# Altium schematic symbol library WiFi_Lib.SchLib: 74 symbols (part 1 of 3)
Pins are listed as number, name and electrical type; pins without a type are passive.

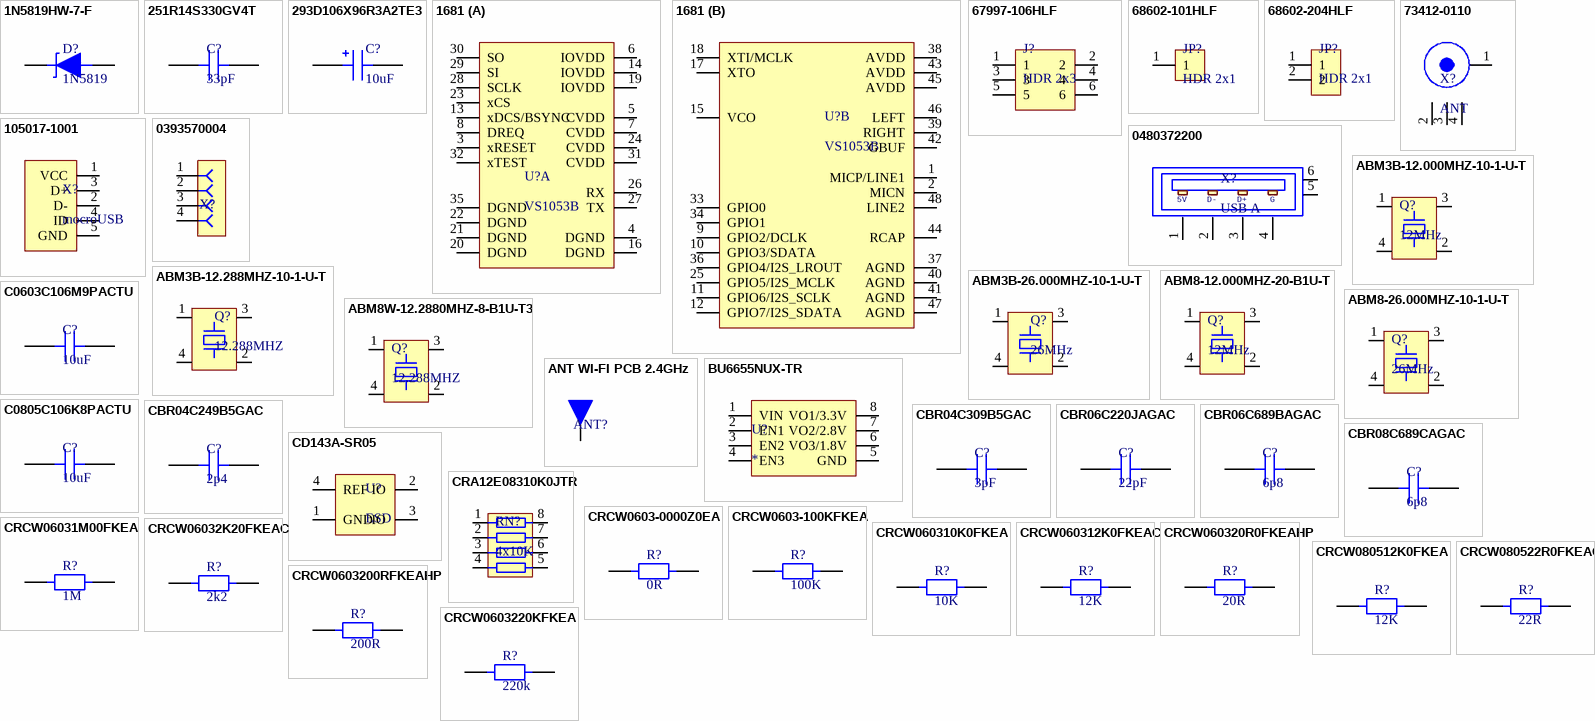
[diagram p0: symbols 1N5819HW-7-F to CRCW0603220KFKEA]

## 1N5819HW-7-F
designator D?, comment 1N5819
DIODE SCHOTTKY 40V 1A SOD123; Manufacturer: Diodes; Manufacturer Part Number: 1N5819HW-7-F; Forward Voltage: 450mV; Max Power Dissipation: 450mW; Peak Reverse Current: 50uA; Element Configuration: Single; Max Forward Surge Current (Ifsm): 25A; Polarity: Standard; Capacitance: 110pF; Supplier 1: Digi-Key; Supplier Part Number 1: 1N5819HW-FDICT-ND; Stock 1: 454743; Case/Package: SOD-123-2; Number of Pins: 2; Weight: 0.000353oz; Contact Plating: Tin,Matte; Min Operating Temperature: -65°C; Max Operating Temperature: 125°C; Package Quantity: 3000; Forward Current: 1A; Packaging: Tape and Reel; Average Rectified Current: 1A; Max Repetitive Reverse Voltage (Vrrm): 40V; Peak Non-Repetitive Surge Current: 25A; Termination: SMD/SMT; Voltage Rating (DC): 40V; Current Rating: 1A; Output Current: 1A; Max Reverse Voltage (DC): 40V; Length: 2.85mm; Height: 1.25mm; Width: 1.7mm; Radiation Hardening: No; REACH SVHC: No SVHC; Lead Free: Lead Free; ComponentLink1URL: http://www.diodes.com/datasheets/ds30217.pdf?src-supplier=Future+Electronics; ComponentLink1Description: http://www.diodes.com/datasheets/ds30217.pdf?src-supplier=Future+Electronics; ComponentLink2URL: https://www.diodes.com/assets/Datasheets/ds30217.pdf?src-supplier=Digi-Key; ComponentLink2Description: https://www.diodes.com/assets/Datasheets/ds30217.pdf?src-supplier=Digi-Key; ComponentLink3URL: http://www.farnell.com/datasheets/2238341.pdf?src-supplier=Element14; ComponentLink3Description: http://www.farnell.com/datasheets/2238341.pdf?src-supplier=Element14; ComponentLink4URL: http://www.jameco.com/Jameco/Products/ProdDS/1538419.pdf?src-supplier=Jameco; ComponentLink4Description: http://www.jameco.com/Jameco/Products/ProdDS/1538419.pdf?src-supplier=Jameco; ComponentLink5URL: http://www.farnell.com/datasheets/2238341.pdf?src-supplier=Avnet; ComponentLink5Description: http://www.farnell.com/datasheets/2238341.pdf?src-supplier=Avnet; ComponentLink6URL: http://www.farnell.com/datasheets/2238341.pdf?src-supplier=Avnet+Europe; ComponentLink6Description: http://www.farnell.com/datasheets/2238341.pdf?src-supplier=Avnet+Europe
footprint SOD123 Diode (2-Leads, Body 1.55x2.70mm, IPC Medium Density)
pins: 1, 2

## 251R14S330GV4T
designator C?, comment 33pF
CAP CER 33PF 0603 250V C0G/NP0; Manufacturer: Johanson; Manufacturer Part Number: 251R14S330GV4T; Dielectric Material: Ceramic; Tolerance: 2%; Dielectric: C0G; Temperature Coefficient: 30ppm/°C; Supplier 1: Digi-Key; Supplier Part Number 1: 712-1341-1-ND; Stock 1: 29771; Pricing 1: 1=0.56, 10=0.394, 100=0.2596, 500=0.1923, 1000=0.1634 (USD); Mount: Surface Mount; Case/Package: 0603; Number of Pins: 2; Case Code (Metric): 1608; Case Code (Imperial): 0603; Min Operating Temperature: -55°C; Max Operating Temperature: 125°C; Package Quantity: 4000; Capacitance: 33pF; Voltage Rating: 250V; Packaging: Tape and Reel; Voltage Rating (DC): 250V; Termination: SMD/SMT; Length: 0.062inch; Height: 0.89mm; Width: 0.032inch; Thickness: 0.035inch; Depth: 0.81mm; REACH SVHC: Unknown; ComponentLink1URL: http://www.farnell.com/datasheets/1731432.pdf?src-supplier=Element14; ComponentLink1Description: http://www.farnell.com/datasheets/1731432.pdf?src-supplier=Element14; ComponentLink2URL: http://www.farnell.com/datasheets/1318610.pdf?src-supplier=Element14; ComponentLink2Description: http://www.farnell.com/datasheets/1318610.pdf?src-supplier=Element14; ComponentLink3URL: http://www.farnell.com/datasheets/321205.pdf?src-supplier=Farnell; ComponentLink3Description: http://www.farnell.com/datasheets/321205.pdf?src-supplier=Farnell; ComponentLink4URL: http://www.mouser.com/ds/2/611/JTI-CAT-MLCC-HighQ-516212.pdf?src-supplier=Mouser; ComponentLink4Description: http://www.mouser.com/ds/2/611/JTI-CAT-MLCC-HighQ-516212.pdf?src-supplier=Mouser
footprint CAP 0603 (Chip Capacitor, 2-Leads, Body 1.60x0.82mm, IPC Medium Density)
pins: 1, 2

## 293D106X96R3A2TE3
designator C?, comment 10uF
CAP TANT 10UF 1206 6.3V 10%; Manufacturer: Vishay Sprague; Manufacturer Part Number: 293D106X96R3A2TE3; Dielectric Material: Tantalum; ESR (Equivalent Series Resistance): 3.4R; Ripple Current: 150mA; Leakage Current: 600nA; Polarity: Polar; Dissipation Factor: 6%; Q Factor: 6; Supplier 1: Digi-Key; Supplier Part Number 1: 718-1126-1-ND; Stock 1: 57716; Pricing 1: 1=0.3, 10=0.212, 100=0.127, 500=0.0952, 1000=0.0804 (USD); Mount: Surface Mount,PCB; Case/Package: 1206; Case Code (Metric): 3216; Case Code (Imperial): 1206; Min Operating Temperature: -55°C; Max Operating Temperature: 125°C; Capacitance: 10uF; Tolerance: 10%; Voltage Rating: 6.3V; Packaging: Tape and Reel; Voltage Rating (DC): 6.3V; Package Quantity: 1; Termination: SMD/SMT; Voltage: 6.3V; Features: General Purpose; Length: 3.2mm; Height: 1.6mm; Width: 1.6mm; Height - Seated (Max): 0.071inch; Depth: 1.6mm; Radiation Hardening: No; REACH SVHC: Unknown; Lead Free: Lead Free; ComponentLink1URL: http://www.vishay.com/docs/40002/293d.pdf?src-supplier=Avnet; ComponentLink1Description: http://www.vishay.com/docs/40002/293d.pdf?src-supplier=Avnet; ComponentLink2URL: http://www.farnell.com/datasheets/2045658.pdf?src-supplier=Element14; ComponentLink2Description: http://www.farnell.com/datasheets/2045658.pdf?src-supplier=Element14; ComponentLink3URL: http://documents.rs-components.com/techlib://itc_doclist_GB.htm?stockno=6843913&src-supplier=RSComponents; ComponentLink3Description: http://documents.rs-components.com/techlib://itc_doclist_GB.htm?stockno=6843913&src-supplier=RSComponents; ComponentLink4URL: https://www.alliedelec.com/m/d/7dc9f301682605e5c5665c787edb7bb9.pdf?src-supplier=Allied+Electronics; ComponentLink4Description: https://www.alliedelec.com/m/d/7dc9f301682605e5c5665c787edb7bb9.pdf?src-supplier=Allied+Electronics; ComponentLink5URL: http://www.vishay.com/docs/40002/293d.pdf?src-supplier=Digi-Key; ComponentLink5Description: http://www.vishay.com/docs/40002/293d.pdf?src-supplier=Digi-Key; ComponentLink6URL: http://www.mouser.com/ds/2/427/293d-239871.pdf?src-supplier=Mouser; ComponentLink6Description: http://www.mouser.com/ds/2/427/293d-239871.pdf?src-supplier=Mouser; ComponentLink7URL: http://www.vishay.com/docs/40002/293d.pdf?src-supplier=Avnet+Europe; ComponentLink7Description: http://www.vishay.com/docs/40002/293d.pdf?src-supplier=Avnet+Europe; ComponentLink8URL: http://www.farnell.com/datasheets/438417.pdf?src-supplier=Element14; ComponentLink8Description: http://www.farnell.com/datasheets/438417.pdf?src-supplier=Element14; Category: Capacitors
footprint CAP 1206 (Molded Capacitor, 2-Leads, Body 3.20x1.60mm, IPC Medium Density)
pins: 1, 2

## 1681
designator U?, comment VS1053B
IC VS1053B MP3/WAV/OGG/MIDI Player & Recorder (CODEC) Chip; Manufacturer: Adafruit Industries; Manufacturer Part Number: 1681; Supplier 1: Digi-Key; Supplier Part Number 1: 1528-2645-ND; Stock 1: 133; Pricing 1: 1=12.5 (USD)
footprint LQFP-48 (LQFP, 48-Leads, Body 7.00x7.00mm, Pitch 0.50mm, IPC Medium Density)
part A pins: 3 xRESET, 4 DGND, 5 CVDD, 6 IOVDD, 7 CVDD, 8 DREQ, 13 xDCS/BSYNC, 14 IOVDD, 16 DGND, 19 IOVDD, 20 DGND, 21 DGND, 22 DGND, 23 xCS, 24 CVDD, 26 RX, 27 TX, 28 SCLK, 29 SI, 30 SO, 31 CVDD, 32 xTEST, 35 DGND
part B pins: 1 MICP/LINE1, 2 MICN, 9 GPIO2/DCLK, 10 GPIO3/SDATA, 11 GPIO6/I2S_SCLK, 12 GPIO7/I2S_SDATA, 15 VCO, 17 XTO, 18 XTI/MCLK, 25 GPIO5/I2S_MCLK, 33 GPIO0, 34 GPIO1, 36 GPIO4/I2S_LROUT, 37 AGND, 38 AVDD, 39 RIGHT, 40 AGND, 41 AGND, 42 GBUF, 43 AVDD, 44 RCAP, 45 AVDD, 46 LEFT, 47 AGND, 48 LINE2

## 67997-106HLF
designator J?, comment HDR 2x3
CONN HEADER 6POS .100 STR 30AU; Manufacturer 1: Amphenol FCI; Manufacturer Part Number 1: 67997-106HLF; Number of Contacts: 6; Insulation Resistance: 5GR; Max Voltage Rating (AC): 1.5kV; Gender: Male; Current Rating: 3A; Connector Type: Male Pin; Pitch: 2.54mm; Row Spacing: 0.1inch; Contact Post Length: 3.05mm; Supplier 1: Digi-Key; RoHS: Yes; Category: Headers and Wire Housings; Stock 1: 1665; Pricing 1: 1=1.78000, 10=1.61400, 100=1.38370, 500=1.15308, 1000=0.98835, 5000=0.87634, 10000=0.85657 (USD); Mount: Through Hole; Contact Plating: Gold,GXT; Housing Color: Black; Contact Material: Bronze; Color: Black; Housing Material: Thermoplastic; Min Operating Temperature: -65°C; Max Operating Temperature: 125°C; Termination: Through Hole; Number of Rows: 2; Orientation: Straight; Number of Positions: 6; Packaging: Bulk; Package Quantity: 100; Contact Gender: Male; Voltage Rating: 1.5kV; Length: 7.62mm; Contact Mating Length: 0.23inch; Depth: 4.83mm; Radiation Hardening: No; Lead Free: Lead Free; REACH SVHC: No SVHC; Flammability Rating: UL94 V-0; ComponentLink1URL: https://datasheet.ciiva.com/5153/67996-222463-5153820.pdf?src-supplier=Mouser; ComponentLink1Description: https://datasheet.ciiva.com/5153/67996-222463-5153820.pdf?src-supplier=Mouser; ComponentLink2URL: https://datasheet.ciiva.com/16726/67996-16726286.pdf?src-supplier=Avnet+Europe; ComponentLink2Description: https://datasheet.ciiva.com/16726/67996-16726286.pdf?src-supplier=Avnet+Europe; ComponentLink3URL: https://datasheet.ciiva.com/722/67996-722044.pdf?src-supplier=Digi-Key; ComponentLink3Description: https://datasheet.ciiva.com/722/67996-722044.pdf?src-supplier=Digi-Key; ComponentLink4URL: https://datasheet.ciiva.com/10149/67996-10149221.pdf?src-supplier=Avnet; ComponentLink4Description: https://datasheet.ciiva.com/10149/67996-10149221.pdf?src-supplier=Avnet; ComponentLink5URL: https://datasheet.ciiva.com/46393/1876884-46393067.pdf?src-supplier=Element14; ComponentLink5Description: https://datasheet.ciiva.com/46393/1876884-46393067.pdf?src-supplier=Element14; Supplier Part Number 1: 609-3393-ND
footprint HDR 2x3 2.54mm
pins: 1, 2, 3, 4, 5, 6

## 68602-101HLF
designator JP?, comment HDR 2x1
CONN HEADER VERT 1POS 2.54MM; Manufacturer 1: Amphenol FCI; Manufacturer Part Number 1: 68602-204HLF; Gender: Male; Connector Type: Male Pin; Number of Positions: 4; Insulation Resistance: 5GR; Current Rating: 3A; Voltage Rating: 1.5kV; Row Spacing: 0.1inch; Contact Post Length: 3.81mm; Supplier 1: Digi-Key; RoHS: Yes; Category: Headers and Wire Housings; Stock 1: 139; Pricing 1: 1=0.34000, 10=0.31900, 100=0.22320, 500=0.19132, 1000=0.15943, 5000=0.13665, 10000=0.12754 (USD); Mount: Through Hole; Housing Material: Thermoplastic; Contact Plating: Gold,GXT; Color: Black; Contact Material: Bronze; Min Operating Temperature: -65°C; Max Operating Temperature: 125°C; Termination: Solder; Packaging: Bulk; Number of Rows: 2; Number of Contacts: 4; Package Quantity: 100; Contact Gender: Male; Pitch: 2.54mm; Contact Mating Length: 0.23inch; Radiation Hardening: No; Flammability Rating: UL94 V-0; ComponentLink1URL: https://datasheet.ciiva.com/728/67996-728884.pdf?src-supplier=Digi-Key; ComponentLink1Description: https://datasheet.ciiva.com/728/67996-728884.pdf?src-supplier=Digi-Key; Supplier Part Number 1: 609-3369-ND
footprint Hdr_Fem_1x1_2.54mm
pins: 1

## 68602-204HLF
designator JP?, comment HDR 2x1
CONN HEADER VERT 2POS 2.54MM; Manufacturer 1: Amphenol FCI; Manufacturer Part Number 1: 68602-204HLF; Gender: Male; Connector Type: Male Pin; Number of Positions: 4; Insulation Resistance: 5GR; Current Rating: 3A; Voltage Rating: 1.5kV; Row Spacing: 0.1inch; Contact Post Length: 3.81mm; Supplier 1: Digi-Key; RoHS: Yes; Category: Headers and Wire Housings; Stock 1: 139; Pricing 1: 1=0.34000, 10=0.31900, 100=0.22320, 500=0.19132, 1000=0.15943, 5000=0.13665, 10000=0.12754 (USD); Mount: Through Hole; Housing Material: Thermoplastic; Contact Plating: Gold,GXT; Color: Black; Contact Material: Bronze; Min Operating Temperature: -65°C; Max Operating Temperature: 125°C; Termination: Solder; Packaging: Bulk; Number of Rows: 2; Number of Contacts: 4; Package Quantity: 100; Contact Gender: Male; Pitch: 2.54mm; Contact Mating Length: 0.23inch; Radiation Hardening: No; Flammability Rating: UL94 V-0; ComponentLink1URL: https://datasheet.ciiva.com/728/67996-728884.pdf?src-supplier=Digi-Key; ComponentLink1Description: https://datasheet.ciiva.com/728/67996-728884.pdf?src-supplier=Digi-Key; Supplier Part Number 1: 609-3369-ND
footprint Hdr_Fem_1x2_2.54mm
pins: 1, 2

## 73412-0110
designator X?, comment ANT
CONN U.FL 50OHM MOLEX 73412-0110 RF COAXIAL, MICROCOAXIAL, JACK; Body Material: Polymer,Liquid Crystal Polymer; Body Plating: Gold; Impedance: 50R; Voltage Rating: 60V; Frequency: 6GHz; Gender: Female; Mating Cycles: 30; Insulation Resistance: 500MR; Polarity: Standard; Supplier 1: Digi-Key; Supplier Part Number 1: WM5587CT-ND; Manufacturer: Molex; Manufacturer Part Number: 73412-0110; Stock 1: 91172; Pricing 1: 1=0.77, 10=0.722, 25=0.6496, 50=0.5774, 100=0.5533, 250=0.5052, 500=0.4811, 1000=0.3969, 2500=0.3609 (USD); Mount: Surface Mount,Through Hole,PCB; Contact Material: Bronze,Brass; Contact Plating: Gold; Material: Bronze; Min Operating Temperature: -40°C; Max Operating Temperature: 90°C; Package Quantity: 5000; Packaging: Tape and Reel; Max Frequency: 6GHz; Termination: Solder; Connector Type: Coaxial; Voltage Rating (AC): 60V; Orientation: Straight; Radiation Hardening: No; REACH SVHC: Unknown; Halogen Free: Low Halogen; Lead Free: Lead Free; ComponentLink1URL: http://www.molex.com/webdocs/datasheets/pdf/en-us/0734120110_RF_COAX_CONNECTORS.pdf?src-supplier=Avnet+Europe; ComponentLink1Description: http://www.molex.com/webdocs/datasheets/pdf/en-us/0734120110_RF_COAX_CONNECTORS.pdf?src-supplier=Avnet+Europe; ComponentLink2URL: http://uk.rs-online.com/webdocs/13c4/0900766b813c49d5.pdf?src-supplier=RSComponents; ComponentLink2Description: http://uk.rs-online.com/webdocs/13c4/0900766b813c49d5.pdf?src-supplier=RSComponents; ComponentLink3URL: http://www.farnell.com/datasheets/1841262.pdf?src-supplier=Farnell; ComponentLink3Description: http://www.farnell.com/datasheets/1841262.pdf?src-supplier=Farnell; ComponentLink4URL: http://www.molex.com/webdocs/datasheets/pdf/en-us/0734120110_RF_COAX_CONNECTORS.pdf?src-supplier=Mouser; ComponentLink4Description: http://www.molex.com/webdocs/datasheets/pdf/en-us/0734120110_RF_COAX_CONNECTORS.pdf?src-supplier=Mouser; ComponentLink5URL: http://www.onlinecomponents.com/productFiles/mf-MOL/1387750734120110_rf_coax_nectors.pdf?src-supplier=Onlinecomponents.com; ComponentLink5Description: http://www.onlinecomponents.com/productFiles/mf-MOL/1387750734120110_rf_coax_nectors.pdf?src-supplier=Onlinecomponents.com; ComponentLink6URL: http://www.farnell.com/datasheets/2698444.pdf?src-supplier=Element14; ComponentLink6Description: http://www.farnell.com/datasheets/2698444.pdf?src-supplier=Element14; ComponentLink7URL: http://www.molex.com/webdocs/datasheets/pdf/en-us/0734120110_RF_COAX_CONNECTORS.pdf?src-supplier=Avnet; ComponentLink7Description: http://www.molex.com/webdocs/datasheets/pdf/en-us/0734120110_RF_COAX_CONNECTORS.pdf?src-supplier=Avnet
footprint U.FL Connector
pins: 1, 2, 3 GND, 4

## 105017-1001
designator X?, comment mocroUSB
CONN USB Type B RCP 5 POS 0.65mm Solder RA Thru-Hole 5 Terminal 1 Port Embossed T/R; Manufacturer: Molex; Manufacturer Part Number: 105017-1001; Gender: Receptacle; Number of Contacts: 5; Number of Ports: 1; Max Voltage Rating (AC): 30V; USB Standard: USB 2.0; Supplier 1: Digi-Key; Supplier Part Number 1: WM11262CT-ND; Stock 1: 8707; Pricing 1: 1=1.6, 10=1.456, 25=1.3668, 50=1.3072, 100=1.2479, 250=1.129, 500=1.0399, 1000=0.8913 (USD); Mount: Surface Mount,Horizontal,Through Hole; Contact Material: Copper Alloy; Contact Plating: Gold; Number of Terminals: 5; Housing Material: Polymer; Min Operating Temperature: -30°C; Max Operating Temperature: 85°C; Packaging: Tape and Reel; Package Quantity: 1; Connector Type: USB; Termination: Solder; Orientation: Right Angle; Length: 7.5mm; Pitch: 0.65mm; Depth: 5mm; Radiation Hardening: No; REACH SVHC: No SVHC; ComponentLink1URL: http://www.molex.com/pdm_docs/sd/1050171001_sd.pdf?src-supplier=Digi-Key; ComponentLink1Description: http://www.molex.com/pdm_docs/sd/1050171001_sd.pdf?src-supplier=Digi-Key; ComponentLink2URL: https://www.verical.com/server-webapp/html/getDatasheet?partID=551961&src-supplier=Verical; ComponentLink2Description: https://www.verical.com/server-webapp/html/getDatasheet?partID=551961&src-supplier=Verical
footprint microUSB
pins: 1 VCC, 2 D-, 3 D+, 4 ID, 5 GND

## 0393570004
designator X?  (value not drawn)
TERMINAL 4 POS 3.5mm Solder ST Thru-Hole 17.5A/Contact Eurostyle™; Manufacturer: Molex; Manufacturer Part Number: 0393570004; Plating: Nickel; Max Voltage Rating (AC): 300V; Number of Contacts: 4; Number of Levels: 1; Current: 12A; Wire Gauge (Max): 28AWG; Wire Gauge (Min): 16AWG; Pitch: 0.138inch; Supplier 1: Digi-Key; Supplier Part Number 1: WM7860-ND; Stock 1: 0; Mount: Through Hole; Color: Black; Contact Plating: Tin; Contact Material: Copper; Housing Color: Black; Housing Material: Polyamide; Min Operating Temperature: -40°C; Max Operating Temperature: 85°C; Packaging: Bulk; Number of Rows: 1; Termination: Solder; Orientation: Straight; Number of Positions Per Level: 4; Voltage: 300V; Max Supply Voltage (AC): 300V; Length: 14mm; Depth: 7.29mm; Radiation Hardening: No; ComponentLink1URL: https://www.verical.com/server-webapp/html/getDatasheet?partID=242364&src-supplier=Verical; ComponentLink1Description: https://www.verical.com/server-webapp/html/getDatasheet?partID=242364&src-supplier=Verical
footprint TRMINAL 3.5MM
pins: 1, 2, 3, 4

## 0480372200
designator X?, comment USB A
CONN PLUG USB A 4POS SMD R/A; Manufacturer 1: Molex; Manufacturer Part Number 1: 0480372200; Number of Contacts: 4; Number of Ports: 1; Max Voltage Rating (AC): 150V; Pitch: 2mm; Supplier 1: Digi-Key; RoHS: Yes; Category: Connectors; Stock 1: 8515; Pricing 1: 1=1.30000, 10=1.14400, 25=1.07720, 50=1.03220, 100=0.98740 (USD); Mount: Surface Mount,Horizontal; Housing Material: Nylon; Contact Plating: Tin,Gold; Number of Terminals: 4; Min Operating Temperature: -20°C; Max Operating Temperature: 85°C; Orientation: Right Angle; Packaging: Tape and Reel; Connector Type: USB; Termination: Solder; Features: Shielded; Package Quantity: 450; Length: 12mm; Depth: 18.75mm; Radiation Hardening: No; ComponentLink1URL: https://datasheet.ciiva.com/851/480372200-sd-851819.pdf?src-supplier=Digi-Key; ComponentLink1Description: https://datasheet.ciiva.com/851/480372200-sd-851819.pdf?src-supplier=Digi-Key; ComponentLink2URL: https://datasheet.ciiva.com/851/480372200-sd-851820.pdf?src-supplier=Digi-Key; ComponentLink2Description: https://datasheet.ciiva.com/851/480372200-sd-851820.pdf?src-supplier=Digi-Key; ComponentLink3URL: https://datasheet.ciiva.com/851/480372200-sd-851821.pdf?src-supplier=Digi-Key; ComponentLink3Description: https://datasheet.ciiva.com/851/480372200-sd-851821.pdf?src-supplier=Digi-Key
footprint USB2.0-A
pins: 1 5V, 2 DX_N, 3 DX_P, 4 GND, 5, 6
text: D-; D+; G

## ABM3B-12.000MHZ-10-1-U-T
designator Q?, comment 12MHz
CRYSTAL SMD 12.000MHZ, 5mm 10PF, 10ppm, 5 X 3.2MM; Manufacturer: Abracon; Manufacturer Part Number: ABM3B-12.000MHZ-10-1-U-T; ESR (Equivalent Series Resistance): 70R; Supplier 1: Digi-Key; Supplier Part Number 1: 300-8197-1-ND; Stock 1: 10947; Pricing 1: 1=1.14, 10=1.012, 50=0.946, 100=0.836, 500=0.792 (USD); Mount: Surface Mount; Case/Package: CSMD; Number of Pins: 4; Min Operating Temperature: -10°C; Max Operating Temperature: 60°C; Package Quantity: 1000; Frequency: 12MHz; Frequency Tolerance: 10ppm; Load Capacitance: 10pF; Packaging: Tape and Reel; Tolerance: 10ppm; Frequency Stability: 10ppm; Termination: SMD/SMT; Composition: Ceramic; Series Resistance: 70R; Length: 5mm; Height: 0.043inch; Width: 0.126inch; Depth: 3.2mm; REACH SVHC: No SVHC; Lead Free: Lead Free; ComponentLink1URL: https://abracon.com/Resonators/abm3b.pdf?src-supplier=Digi-Key; ComponentLink1Description: https://abracon.com/Resonators/abm3b.pdf?src-supplier=Digi-Key; ComponentLink2URL: https://www.verical.com/server-webapp/html/getDatasheet?partID=719803&src-supplier=Verical; ComponentLink2Description: https://www.verical.com/server-webapp/html/getDatasheet?partID=719803&src-supplier=Verical; ComponentLink3URL: http://www.mouser.com/ds/2/3/abm3b-39910.pdf?src-supplier=Mouser; ComponentLink3Description: http://www.mouser.com/ds/2/3/abm3b-39910.pdf?src-supplier=Mouser
footprint ABM3B Crystal (4-Leads, Pitch 4.00mm, IPC Medium Density)
pins: 1, 2 GND, 3, 4 GND

## ABM3B-12.288MHZ-10-1-U-T
designator Q?, comment 12.288MHZ
CRYSTAL SMD 12.288MHZ 5mm 10PF; Manufacturer: Abracon; Manufacturer Part Number: ABM3B-12.288MHZ-10-1-U-T; ESR (Equivalent Series Resistance): 70R; Tolerance: 10ppm; Supplier 1: Digi-Key; Supplier Part Number 1: 300-8198-1-ND; Stock 1: 2776; Pricing 1: 1=1.14, 10=1.012, 50=0.946, 100=0.836, 500=0.792 (USD); Mount: Surface Mount; Case/Package: CSMD; Number of Pins: 4; Min Operating Temperature: -10°C; Max Operating Temperature: 60°C; Frequency: 12.288MHz; Load Capacitance: 10pF; Package Quantity: 1000; Packaging: Tape and Reel; Frequency Tolerance: 10ppm; Frequency Stability: 10ppm; Termination: SMD/SMT; Composition: Ceramic; Length: 5mm; Height: 0.043inch; Width: 3.2mm; Depth: 3.2mm; Radiation Hardening: No; REACH SVHC: No SVHC; Lead Free: Lead Free; ComponentLink1URL: https://www.verical.com/server-webapp/html/getDatasheet?partID=719804&src-supplier=Verical; ComponentLink1Description: https://www.verical.com/server-webapp/html/getDatasheet?partID=719804&src-supplier=Verical; ComponentLink2URL: http://www.abracon.com/Resonators/abm3b.pdf?src-supplier=Digi-Key; ComponentLink2Description: http://www.abracon.com/Resonators/abm3b.pdf?src-supplier=Digi-Key; ComponentLink3URL: https://abracon.com/Resonators/abm3b.pdf?src-supplier=Digi-Key; ComponentLink3Description: https://abracon.com/Resonators/abm3b.pdf?src-supplier=Digi-Key; ComponentLink4URL: http://www.abracon.com/Resonators/abm3b.pdf?src-supplier=Avnet; ComponentLink4Description: http://www.abracon.com/Resonators/abm3b.pdf?src-supplier=Avnet; ComponentLink5URL: http://www.abracon.com/Resonators/abm3b.pdf?src-supplier=Future+Electronics; ComponentLink5Description: http://www.abracon.com/Resonators/abm3b.pdf?src-supplier=Future+Electronics
footprint ABM3B Crystal (4-Leads, Pitch 4.00mm, IPC Medium Density)
pins: 1, 2 GND, 3, 4 GND

## ABM3B-26.000MHZ-10-1-U-T
designator Q?, comment 26MHz
CRYSTAL SMD 26MHZ 5mm 10PF; Manufacturer: Abracon; Manufacturer Part Number: ABM3B-26.000MHZ-10-1-U-T; Frequency Tolerance: 10ppm; ESR (Equivalent Series Resistance): 50R; Insulation Resistance: 500MR; Supplier 1: Digi-Key; Supplier Part Number 1: 300-8219-1-ND; Stock 1: 8688; Pricing 1: 1=1.14, 10=1.012, 50=0.946, 100=0.836, 500=0.792 (USD); Mount: Surface Mount; Case/Package: CSMD; Number of Pins: 4; Min Operating Temperature: -10°C; Max Operating Temperature: 60°C; Packaging: Tape and Reel; Load Capacitance: 10pF; Frequency: 26MHz; Package Quantity: 1000; Tolerance: 10ppm; Frequency Stability: 10ppm; Termination: SMD/SMT; Series Resistance: 50R; Composition: Ceramic; Length: 5mm; Height: 0.043inch; Width: 0.126inch; Depth: 3.2mm; REACH SVHC: No SVHC; Lead Free: Lead Free; ComponentLink1URL: http://www.abracon.com/Resonators/abm3b.pdf?src-supplier=Digi-Key; ComponentLink1Description: http://www.abracon.com/Resonators/abm3b.pdf?src-supplier=Digi-Key; ComponentLink2URL: https://abracon.com/Resonators/abm3b.pdf?src-supplier=Digi-Key; ComponentLink2Description: https://abracon.com/Resonators/abm3b.pdf?src-supplier=Digi-Key; ComponentLink3URL: https://www.verical.com/server-webapp/html/getDatasheet?partID=719800&src-supplier=Verical; ComponentLink3Description: https://www.verical.com/server-webapp/html/getDatasheet?partID=719800&src-supplier=Verical
footprint ABM3B Crystal (4-Leads, Pitch 4.00mm, IPC Medium Density)
pins: 1, 2 GND, 3, 4 GND

## ABM8-12.000MHZ-20-B1U-T
designator Q?, comment 12MHz
CRYSTAL SMD 12MHz ±10ppm (Tol) ±10ppm (Stability) 20pF FUND 120Ohm 4-Pin Ultra Mini-CSMD T/R; Manufacturer: Abracon; Manufacturer Part Number: ABM8-12.000MHZ-20-B1U-T; Supplier 1: Digi-Key; Supplier Part Number 1: 535-14963-1-ND; Stock 1: 970; Pricing 1: 1=0.57, 10=0.473, 50=0.4258, 100=0.3784, 500=0.3595 (USD); ComponentLink1URL: http://datasheet.octopart.com/ABM8-12.000MHZ-20-B1U-T-Abracon-datasheet-103059652.pdf?src-supplier=Sager+Electronics; ComponentLink1Description: http://datasheet.octopart.com/ABM8-12.000MHZ-20-B1U-T-Abracon-datasheet-103059652.pdf?src-supplier=Sager+Electronics
footprint ABM8W (4-Leads, Body 2.50x3.20mm, Pitch 2.20mm, IPC Medium Density)
pins: 1, 2 GND, 3, 4 GND

## ABM8-26.000MHZ-10-1-U-T
designator Q?, comment 26MHz
CRYSTAL SMD 26MHz 3.2mm ±10ppm (Tol) ±10ppm (Stability) 10pF FUND 50Ohm 4-Pin Ultra Mini-CSMD T/R; Manufacturer: Abracon; Manufacturer Part Number: ABM8-26.000MHZ-10-1-U-T; ESR (Equivalent Series Resistance): 50R; Supplier 1: Digi-Key; Supplier Part Number 1: 300-8230-1-ND; Stock 1: 88292; Pricing 1: 1=1.09, 10=0.961, 50=0.8988, 100=0.7942, 500=0.7524 (USD); Mount: Surface Mount; Case/Package: CSMD; Number of Pins: 4; Min Operating Temperature: -10°C; Max Operating Temperature: 60°C; Package Quantity: 1000; Packaging: Tape and Reel; Frequency Tolerance: 10ppm; Load Capacitance: 10pF; Frequency: 26MHz; Tolerance: 10ppm; Frequency Stability: 10ppm; Termination: SMD/SMT; Composition: Ceramic; Series Resistance: 50R; Length: 3.2mm; Height: 0.031inch; Width: 2.5mm; Depth: 2.5mm; Lead Free: Lead Free; REACH SVHC: No SVHC; ComponentLink1URL: http://www.abracon.com/Resonators/abm8.pdf?src-supplier=Avnet; ComponentLink1Description: http://www.abracon.com/Resonators/abm8.pdf?src-supplier=Avnet; ComponentLink2URL: https://www.verical.com/server-webapp/html/getDatasheet?partID=719798&src-supplier=Verical; ComponentLink2Description: https://www.verical.com/server-webapp/html/getDatasheet?partID=719798&src-supplier=Verical; ComponentLink3URL: http://www.abracon.com/Resonators/abm8.pdf?src-supplier=Digi-Key; ComponentLink3Description: http://www.abracon.com/Resonators/abm8.pdf?src-supplier=Digi-Key; ComponentLink4URL: https://abracon.com/Support/PackageDrawing/Resonators/ABM8.PDF?src-supplier=Digi-Key; ComponentLink4Description: https://abracon.com/Support/PackageDrawing/Resonators/ABM8.PDF?src-supplier=Digi-Key
footprint ABM8W (4-Leads, Body 2.50x3.20mm, Pitch 2.20mm, IPC Medium Density)
pins: 1, 2 GND, 3, 4 GND

## ABM8W-12.2880MHZ-8-B1U-T3
designator Q?, comment 12.288MHZ
CRYSTAL SMD 12.288MHZ Iot Optimized 12.29MHZ 8PF Crystal; Manufacturer: Abracon; Manufacturer Part Number: ABM8W-12.2880MHZ-8-B1U-T3; Supplier 1: Digi-Key; Supplier Part Number 1: ABM8W-12.2880MHZ-8-B1U-T3-ND; Stock 1: 0; Pricing 1: 3000=0.36 (USD); ComponentLink1URL: http://datasheet.octopart.com/ABM8W-12.2880MHZ-8-B1U-T3-Abracon-datasheet-101745424.pdf?src-supplier=Sager+Electronics; ComponentLink1Description: http://datasheet.octopart.com/ABM8W-12.2880MHZ-8-B1U-T3-Abracon-datasheet-101745424.pdf?src-supplier=Sager+Electronics
footprint ABM8W (4-Leads, Body 2.50x3.20mm, Pitch 2.20mm, IPC Medium Density)
pins: 1, 2 GND, 3, 4 GND

## ANT WI-FI PCB 2.4GHz
designator ANT?, comment ANT  (value not drawn)  (no BOM)
ANT WIFI PCB TRACE ANTENNA 2.4GHz
footprint PIFA
pins: 1

## BU6655NUX-TR
designator U?
IC REG LIN 1.8V/2.8V/3.3V 200mA 8VSON; Manufacturer: Rohm; Manufacturer Part Number: BU6655NUX-TR; Number of Outputs: 3; Min Input Voltage: 2.5V; Max Input Voltage: 5.5V; Max Power Dissipation: 660mW; Output Voltage: 1.8V; Output Type: Fixed; Supplier 1: Digi-Key; Supplier Part Number 1: BU6655NUXCT-ND; Stock 1: 1791; Pricing 1: 1=0.66, 10=0.585, 25=0.5492, 100=0.4482, 250=0.4163, 500=0.3543, 1000=0.2835 (USD); Mount: Surface Mount; Number of Pins: 8; Min Operating Temperature: -40°C; Max Operating Temperature: 85°C; Packaging: Tape and Reel; Max Output Current: 200mA; Package Quantity: 4000; Output Current: 200mA; Number of Regulators: 3; Lead Free: Lead Free; ComponentLink1URL: http://rohmfs.rohm.com/en/products/databook/datasheet/ic/power/linear_regulator/bu665xnux-e.pdf?src-supplier=Digi-Key; ComponentLink1Description: http://rohmfs.rohm.com/en/products/databook/datasheet/ic/power/linear_regulator/bu665xnux-e.pdf?src-supplier=Digi-Key; ComponentLink2URL: http://rohmfs.rohm.com/en/products/databook/datasheet/ic/power/linear_regulator/bu665xnux-e.pdf?src-supplier=Avnet; ComponentLink2Description: http://rohmfs.rohm.com/en/products/databook/datasheet/ic/power/linear_regulator/bu665xnux-e.pdf?src-supplier=Avnet
footprint VSON-8 Thermal (VSON, 8-Leads, Body 2.00x3.00mm, Pitch 0.50mm, Thermal Pad 1.50x1.40mm, IPC Medium Density)
pins: 1 VIN, 2 EN1, 3 EN2, 4 EN3, 5 GND, 6 VO3/1.8V, 7 VO2/2.8V, 8 VO1/3.3V

## C0603C106M9PACTU
designator C?, comment 10uF
CAP CER 10UF 0603 6.3V; Manufacturer: KEMET; Manufacturer Part Number: C0603C106M9PACTU; Dielectric Material: Ceramic; Tolerance: 20%; Dielectric: X5R; Supplier 1: Digi-Key; Supplier Part Number 1: 399-5504-1-ND; Stock 1: 97190; Pricing 1: 1=0.49, 10=0.34, 100=0.2042, 500=0.1531, 1000=0.1293 (USD); Mount: Surface Mount; Case/Package: 0603; Min Operating Temperature: -55°C; Max Operating Temperature: 85°C; Capacitance: 10uF; Packaging: Tape and Reel; Voltage: 6.3V; Termination: SMD/SMT; Length: 1.6mm; Height: 0.8mm; Depth: 0.8mm; Radiation Hardening: No; ComponentLink1URL: http://www.farnell.com/datasheets/2739682.pdf?src-supplier=Farnell; ComponentLink1Description: http://www.farnell.com/datasheets/2739682.pdf?src-supplier=Farnell; ComponentLink2URL: http://uk.rs-online.com/webdocs/1515/0900766b8151511d.pdf?src-supplier=RSComponents; ComponentLink2Description: http://uk.rs-online.com/webdocs/1515/0900766b8151511d.pdf?src-supplier=RSComponents; ComponentLink3URL: http://www.farnell.com/datasheets/1918694.pdf?src-supplier=Farnell; ComponentLink3Description: http://www.farnell.com/datasheets/1918694.pdf?src-supplier=Farnell; ComponentLink4URL: http://www.farnell.com/datasheets/2315129.pdf?src-supplier=RSComponents; ComponentLink4Description: http://www.farnell.com/datasheets/2315129.pdf?src-supplier=RSComponents; ComponentLink5URL: http://www.kemet.com/kemet/web/homepage/kechome.nsf/weben/ADB5E2666EC6BA90CA2570A50016092E/$file/KEM_C1005_Y5V_SMD.pdf?src-supplier=Avnet; ComponentLink5Description: http://www.kemet.com/kemet/web/homepage/kechome.nsf/weben/ADB5E2666EC6BA90CA2570A50016092E/$file/KEM_C1005_Y5V_SMD.pdf?src-supplier=Avnet; ComponentLink6URL: http://www.farnell.com/datasheets/2315129.pdf?src-supplier=Verical; ComponentLink6Description: http://www.farnell.com/datasheets/2315129.pdf?src-supplier=Verical; ComponentLink7URL: http://www.farnell.com/datasheets/2739682.pdf?src-supplier=Newark; ComponentLink7Description: http://www.farnell.com/datasheets/2739682.pdf?src-supplier=Newark; ComponentLink8URL: https://api.kemet.com/component-edge/download/datasheet/C0603C106M9PACTU.pdf?src-supplier=Digi-Key; ComponentLink8Description: https://api.kemet.com/component-edge/download/datasheet/C0603C106M9PACTU.pdf?src-supplier=Digi-Key; ComponentLink9URL: http://www.farnell.com/datasheets/2123796.pdf?src-supplier=Element14; ComponentLink9Description: http://www.farnell.com/datasheets/2123796.pdf?src-supplier=Element14; ComponentLink10URL: http://www.farnell.com/datasheets/2315129.pdf?src-supplier=Avnet+Asia; ComponentLink10Description: http://www.farnell.com/datasheets/2315129.pdf?src-supplier=Avnet+Asia; ComponentLink11URL: http://www.farnell.com/datasheets/2315129.pdf?src-supplier=Allied+Electronics; ComponentLink11Description: http://www.farnell.com/datasheets/2315129.pdf?src-supplier=Allied+Electronics; ComponentLink12URL: http://components.arrow.com/part/dataview/0323_00011321?src-supplier=Arrow+Europe; ComponentLink12Description: http://components.arrow.com/part/dataview/0323_00011321?src-supplier=Arrow+Europe; ComponentLink13URL: http://components.arrow.com/part/dataview/42932973S8313645N7429?src-supplier=Arrow; ComponentLink13Description: http://components.arrow.com/part/dataview/42932973S8313645N7429?src-supplier=Arrow; ComponentLink14URL: http://www.farnell.com/datasheets/2315129.pdf?src-supplier=Mouser; ComponentLink14Description: http://www.farnell.com/datasheets/2315129.pdf?src-supplier=Mouser; ComponentLink15URL: https://www.verical.com/server-webapp/html/getDatasheet?partID=353664&src-supplier=Verical; ComponentLink15Description: https://www.verical.com/server-webapp/html/getDatasheet?partID=353664&src-supplier=Verical; ComponentLink16URL: http://capacitoredge.kemet.com/capedge2/DataSheet?pn=C0603C106M9PAC7867&src-supplier=Avnet; ComponentLink16Description: http://capacitoredge.kemet.com/capedge2/DataSheet?pn=C0603C106M9PAC7867&src-supplier=Avnet; ComponentLink17URL: http://www.farnell.com/datasheets/2315129.pdf?src-supplier=Distrelec; ComponentLink17Description: http://www.farnell.com/datasheets/2315129.pdf?src-supplier=Distrelec; ComponentLink18URL: http://www.kemet.com/kemet/web/homepage/kechome.nsf/file/Commercial%20Ceramic%20Chips%20X5R%20Dielectric/$file/KEM_C1006_X5R_SMD.pdf?src-supplier=Element14; ComponentLink18Description: http://www.kemet.com/kemet/web/homepage/kechome.nsf/file/Commercial%20Ceramic%20Chips%20X5R%20Dielectric/$file/KEM_C1006_X5R_SMD.pdf?src-supplier=Element14; ComponentLink19URL: http://www.farnell.com/datasheets/2315129.pdf?src-supplier=TME; ComponentLink19Description: http://www.farnell.com/datasheets/2315129.pdf?src-supplier=TME; ComponentLink20URL: http://www.farnell.com/datasheets/2315129.pdf?src-supplier=TTI; ComponentLink20Description: http://www.farnell.com/datasheets/2315129.pdf?src-supplier=TTI; ComponentLink21URL: http://www.farnell.com/datasheets/2315129.pdf?src-supplier=Quest; ComponentLink21Description: http://www.farnell.com/datasheets/2315129.pdf?src-supplier=Quest
footprint CAP 0603 (Chip Capacitor, 2-Leads, Body 1.60x0.82mm, IPC Medium Density)
pins: 1, 2

## C0805C106K8PACTU
designator C?, comment 10uF
CAP CER 10UF 0805 10V X5R; Manufacturer: KEMET; Manufacturer Part Number: C0805C106K8PACTU; Dielectric Material: Ceramic; Tolerance: 10%; Supplier 1: Digi-Key; Supplier Part Number 1: 399-4925-1-ND; Stock 1: 697432; Mount: Surface Mount; Case/Package: 0805; Number of Pins: 2; Contact Plating: Tin,Matte; Case Code (Imperial): 0805; Case Code (Metric): 2012; Min Operating Temperature: -55°C; Max Operating Temperature: 85°C; Capacitance: 10uF; Packaging: Tape and Reel; Dielectric: X5R; Voltage Rating (DC): 10V; Termination: SMD/SMT; Package Quantity: 1; Voltage Rating: 10V; Voltage: 10V; Dissipation Factor: 10%; Length: 2mm; Height: 1.25mm; Depth: 1.25mm; Width: 1.2mm; Thickness: 0.055inch; Radiation Hardening: No; REACH SVHC: No SVHC; ComponentLink1URL: http://www.farnell.com/datasheets/2739827.pdf?src-supplier=Element14; ComponentLink1Description: http://www.farnell.com/datasheets/2739827.pdf?src-supplier=Element14; ComponentLink2URL: http://www.farnell.com/datasheets/40889.pdf?src-supplier=Element14; ComponentLink2Description: http://www.farnell.com/datasheets/40889.pdf?src-supplier=Element14
footprint CAP 0805 (Chip Capacitor, 2-Leads, Body 1.95x1.25mm, IPC Medium Density)
pins: 1, 2

## CBR04C249B5GAC
designator C?, comment 2p4
CAP CER 2.4pF 0402 50V C0G 0.1pF SMD 0402 125°C Paper T/R; Manufacturer: KEMET; Manufacturer Part Number: CBR04C249B5GAC; Supplier 1: Digi-Key; Supplier Part Number 1: 399-16068-1-ND; Stock 1: 6688; Pricing 1: 1=0.18, 10=0.125, 100=0.0635, 500=0.0434, 1000=0.0384, 2500=0.0367, 5000=0.0334 (USD); Case/Package: 0402; Case Code (Metric): 1005; Case Code (Imperial): 0402; Max Operating Temperature: 125°C; Capacitance: 2.4pF; Voltage Rating: 50V; Packaging: Cut Tape; Voltage Rating (DC): 50V; REACH SVHC: No SVHC; ComponentLink1URL: http://www.farnell.com/datasheets/1446011.pdf?src-supplier=Element14; ComponentLink1Description: http://www.farnell.com/datasheets/1446011.pdf?src-supplier=Element14; ComponentLink2URL: http://www.farnell.com/datasheets/2761969.pdf?src-supplier=Farnell; ComponentLink2Description: http://www.farnell.com/datasheets/2761969.pdf?src-supplier=Farnell
footprint CAP 0402
pins: 1, 2

## CBR04C309B5GAC
designator C?, comment 3pF
CAP CER 3PF 0402 50V NP0; Manufacturer: KEMET; Manufacturer Part Number: CBR04C309B5GAC; Dielectric: C0G; Supplier 1: Digi-Key; Supplier Part Number 1: 399-13245-1-ND; Stock 1: 1768; Pricing 1: 1=0.19, 10=0.137, 100=0.0646, 500=0.0453, 1000=0.0375, 2500=0.0349, 5000=0.0319 (USD); Mount: Surface Mount; Case/Package: 0402; Weight: 2.3E-05oz; Case Code (Imperial): 0402; Case Code (Metric): 1005; Min Operating Temperature: -55°C; Max Operating Temperature: 125°C; Capacitance: 3pF; Voltage Rating (DC): 50V; Packaging: Tape and Reel; Package Quantity: 10000; Voltage Rating: 50V; Termination: SMD/SMT; Length: 0.039inch; Height: 0.5mm; Width: 0.02inch; Thickness: 0.022inch; ComponentLink1URL: http://www.mouser.com/ds/2/212/KEM_C1030_CBR_SMD-1101233.pdf?src-supplier=Mouser; ComponentLink1Description: http://www.mouser.com/ds/2/212/KEM_C1030_CBR_SMD-1101233.pdf?src-supplier=Mouser; ComponentLink2URL: http://www.kemet.com/Lists/ProductCatalog/Attachments/490/KEM_C1030_CBR_SMD.pdf?src-supplier=Digi-Key; ComponentLink2Description: http://www.kemet.com/Lists/ProductCatalog/Attachments/490/KEM_C1030_CBR_SMD.pdf?src-supplier=Digi-Key
footprint CAP 0402
pins: 1, 2

## CBR06C220JAGAC
designator C?, comment 22pF
CAP CER 22PF 0603 250V C0G/NP0; Manufacturer: KEMET; Manufacturer Part Number: CBR06C220JAGAC; Dielectric Material: Ceramic; Tolerance: 5%; Dielectric: C0G; Temperature Coefficient: 30ppm/°C; Supplier 1: Digi-Key; Supplier Part Number 1: 399-6187-1-ND; Stock 1: 22390; Pricing 1: 1=0.98, 10=0.773, 100=0.5796, 500=0.4379, 1000=0.3864 (USD); Mount: Surface Mount; Case/Package: 0603; Weight: 7.1E-05oz; Case Code (Metric): 1608; Case Code (Imperial): 0603; Min Operating Temperature: -55°C; Max Operating Temperature: 125°C; Capacitance: 22pF; Voltage Rating: 250V; Packaging: Tape and Reel; Package Quantity: 1; Voltage Rating (DC): 250V; Termination: SMD/SMT; Voltage: 250V; Length: 1.6mm; Height: 0.8mm; Width: 0.031inch; Thickness: 0.034inch; Depth: 0.8mm; Radiation Hardening: No; REACH SVHC: No SVHC; ComponentLink1URL: http://www.farnell.com/datasheets/1446011.pdf?src-supplier=Element14; ComponentLink1Description: http://www.farnell.com/datasheets/1446011.pdf?src-supplier=Element14; ComponentLink2URL: http://uk.rs-online.com/webdocs/1528/0900766b81528b9f.pdf?src-supplier=RSComponents; ComponentLink2Description: http://uk.rs-online.com/webdocs/1528/0900766b81528b9f.pdf?src-supplier=RSComponents; ComponentLink3URL: https://search.kemet.com/component-edge/download/datasheet/CBR06C220JAGAC.pdf?src-supplier=Digi-Key; ComponentLink3Description: https://search.kemet.com/component-edge/download/datasheet/CBR06C220JAGAC.pdf?src-supplier=Digi-Key; ComponentLink4URL: https://api.kemet.com/component-edge/download/datasheet/CBR06C220JAGAC.pdf?src-supplier=Digi-Key; ComponentLink4Description: https://api.kemet.com/component-edge/download/datasheet/CBR06C220JAGAC.pdf?src-supplier=Digi-Key
footprint CAP 0603 (Chip Capacitor, 2-Leads, Body 1.60x0.82mm, IPC Medium Density)
pins: 1, 2

## CBR06C689BAGAC
designator C?, comment 6p8
CAP CER 6.8PF 0603 250V C0G/NP0; Manufacturer: KEMET; Manufacturer Part Number: CBR06C689BAGAC; Supplier 1: Digi-Key; Supplier Part Number 1: 399-8744-1-ND; Stock 1: 20; Pricing 1: 1=0.78, 10=0.549, 100=0.3614, 500=0.2677, 1000=0.2275 (USD); Mount: Surface Mount; Case/Package: 0603; Case Code (Metric): 1608; Case Code (Imperial): 0603; Min Operating Temperature: -55°C; Max Operating Temperature: 125°C; Package Quantity: 1; Capacitance: 6.8pF; Voltage Rating: 250V; Packaging: Tape and Reel; Length: 0.063inch; Width: 0.031inch; Thickness: 0.034inch; ComponentLink1URL: https://search.kemet.com/component-edge/download/datasheet/CBR06C689BAGAC.pdf?src-supplier=Digi-Key; ComponentLink1Description: https://search.kemet.com/component-edge/download/datasheet/CBR06C689BAGAC.pdf?src-supplier=Digi-Key; ComponentLink2URL: https://api.kemet.com/component-edge/download/datasheet/CBR06C689BAGAC.pdf?src-supplier=Digi-Key; ComponentLink2Description: https://api.kemet.com/component-edge/download/datasheet/CBR06C689BAGAC.pdf?src-supplier=Digi-Key
footprint CAP 0603 (Chip Capacitor, 2-Leads, Body 1.60x0.82mm, IPC Medium Density)
pins: 1, 2

## CBR08C689CAGAC
designator C?, comment 6p8
CAP CER 6.8PF 0805 Ultra Low ESR 250V C0G/NP0 High Q, Low Loss; Manufacturer: KEMET; Manufacturer Part Number: CBR08C689CAGAC; Dielectric: C0G; Supplier 1: Digi-Key; Supplier Part Number 1: 399-8722-1-ND; Stock 1: 4000; Mount: Surface Mount; Case/Package: 0805; Weight: 0.000194oz; Case Code (Metric): 2012; Case Code (Imperial): 0805; Min Operating Temperature: -55°C; Max Operating Temperature: 125°C; Package Quantity: 1; Capacitance: 6.8pF; Voltage Rating: 250V; Packaging: Tape and Reel; Voltage Rating (DC): 250V; Termination: SMD/SMT; Length: 0.079inch; Height: 0.85mm; Width: 0.049inch; Thickness: 0.035inch; ComponentLink1URL: https://search.kemet.com/component-edge/download/datasheet/CBR08C689CAGAC.pdf?src-supplier=Digi-Key; ComponentLink1Description: https://search.kemet.com/component-edge/download/datasheet/CBR08C689CAGAC.pdf?src-supplier=Digi-Key
footprint CAP 0805 (Chip Capacitor, 2-Leads, Body 1.95x1.25mm, IPC Medium Density)
pins: 1, 2

## CD143A-SR05
designator U?, comment ESD
TVS DIODE 5V 20V SOT143; Manufacturer: Bourns; Manufacturer Part Number: CD143A-SR05; Direction: Unidirectional; Reverse Breakdown Voltage: 6V; Number of Elements: 1; Capacitance: 10pF; Number of Bidirectional Channels: 2; Peak Pulse Power: 500W; Power Line Protection: Yes; Leakage Current: 5uA; Peak Pulse Current: 30A; Test Current: 1mA; Element Configuration: Dual; Supplier 1: Digi-Key; Supplier Part Number 1: CD143A-SR05CT-ND; Stock 1: 13371; Pricing 1: 1=0.93, 10=0.836, 25=0.7932, 100=0.6515, 250=0.609, 500=0.5382, 1000=0.4249 (USD); Mount: Surface Mount; Case/Package: SOT-143; Number of Pins: 4; Contact Plating: Tin; Min Operating Temperature: -55°C; Max Operating Temperature: 150°C; Package Quantity: 1; Packaging: Tape and Reel; Reverse Standoff Voltage: 5V; Min Breakdown Voltage: 6V; Clamping Voltage: 20V; Polarity: Unidirectional; Number of Channels: 2; Breakdown Voltage: 6V; Termination: SMD/SMT; Max Power Dissipation: 500W; Working Voltage: 5V; ESD Protection: Yes; Power Dissipation: 500W; Max Breakdown Voltage: 6V; Max Reverse Leakage Current: 5uA; Length: 3.04mm; Height: 0.045inch; Width: 0.055inch; Depth: 1.39mm; Radiation Hardening: No; REACH SVHC: No SVHC; ComponentLink1URL: https://www.verical.com/server-webapp/html/getDatasheet?partID=29449&src-supplier=Verical; ComponentLink1Description: https://www.verical.com/server-webapp/html/getDatasheet?partID=29449&src-supplier=Verical; ComponentLink2URL: http://www.farnell.com/datasheets/1671020.pdf?src-supplier=Farnell; ComponentLink2Description: http://www.farnell.com/datasheets/1671020.pdf?src-supplier=Farnell; ComponentLink3URL: https://www.bourns.com/docs/Product-Datasheets/CD143A-SR05_12.pdf?src-supplier=Digi-Key; ComponentLink3Description: https://www.bourns.com/docs/Product-Datasheets/CD143A-SR05_12.pdf?src-supplier=Digi-Key; ComponentLink4URL: http://www.farnell.com/datasheets/1671020.pdf?src-supplier=Element14; ComponentLink4Description: http://www.farnell.com/datasheets/1671020.pdf?src-supplier=Element14; ComponentLink5URL: http://www.bourns.com/docs/Product-Datasheets/CD143A-SR05_12.pdf?src-supplier=Digi-Key; ComponentLink5Description: http://www.bourns.com/docs/Product-Datasheets/CD143A-SR05_12.pdf?src-supplier=Digi-Key; ComponentLink6URL: http://www.bourns.com/pdfs/CD143A-SR05_12.pdf?src-supplier=Avnet+Europe; ComponentLink6Description: http://www.bourns.com/pdfs/CD143A-SR05_12.pdf?src-supplier=Avnet+Europe; ComponentLink7URL: http://www.bourns.com/pdfs/CD143A-SR05_12.pdf?src-supplier=Avnet; ComponentLink7Description: http://www.bourns.com/pdfs/CD143A-SR05_12.pdf?src-supplier=Avnet; ComponentLink8URL: http://www.mouser.com/ds/2/54/D143A-SR05_12-777248.pdf?src-supplier=Mouser; ComponentLink8Description: http://www.mouser.com/ds/2/54/D143A-SR05_12-777248.pdf?src-supplier=Mouser
footprint SOT143 (SOT143, 4-Leads, Body 2.92x2.29mm, Pitch 1.90mm, IPC Medium Density)
pins: 1 GND, 2 IO, 3 IO, 4 REF

## CRA12E08310K0JTR
designator RN?, comment 4x10K
RES ARRAY 4 RES 10K OHM 2012; Manufacturer: Vishay Dale; Manufacturer Part Number: CRA12E08310K0JTR; Resistance: 10kR; Tolerance: 5%; Voltage Rating: 50V; Number of Elements: 4; Circuit Type: Isolated; Power Per Element: 125mW; Temperature Coefficient: 200ppm/°C; Number of Contacts: 8; Power Rating: 100mW; Supplier 1: Digi-Key; Supplier Part Number 1: CRA12E810KCT-ND; Stock 1: 10000; Pricing 1: 1=0.4, 10=0.304, 25=0.2312, 50=0.1716, 100=0.1276, 250=0.1078, 500=0.0924, 1000=0.0704 (USD); Mount: Surface Mount; Case/Package: Molded; Number of Pins: 8; Number of Terminals: 8; Contact Plating: Tin; Min Operating Temperature: -55°C; Max Operating Temperature: 155°C; Package Quantity: 1; Packaging: Tape and Reel; Number of Resistors: 4; Termination: Convex; Military Standard: Not; Power Dissipation: 125mW; Working Voltage: 50V; Voltage Rating (DC): 50V; Length: 5.08mm; Height: 0.028inch; Width: 0.12inch; Lead Pitch: 1.27mm; Terminal Pitch: 1.27mm; Depth: 3.05mm; Thickness: 530um; Lead Free: Exempt; REACH SVHC: Unknown; ComponentLink1URL: http://www.vishay.com/docs/31003/cra12es.pdf?src-supplier=Digi-Key; ComponentLink1Description: http://www.vishay.com/docs/31003/cra12es.pdf?src-supplier=Digi-Key; ComponentLink2URL: http://www.farnell.com/datasheets/1913555.pdf?src-supplier=Element14; ComponentLink2Description: http://www.farnell.com/datasheets/1913555.pdf?src-supplier=Element14; ComponentLink3URL: http://www.vishay.com/docs/31003/cra12es.pdf?src-supplier=Avnet; ComponentLink3Description: http://www.vishay.com/docs/31003/cra12es.pdf?src-supplier=Avnet; ComponentLink4URL: http://www.vishay.com/docs/31003/cra12es.pdf?src-supplier=Future+Electronics; ComponentLink4Description: http://www.vishay.com/docs/31003/cra12es.pdf?src-supplier=Future+Electronics
footprint RES ARR 8 (Chip Array, ConvexE, 8-Leads, Pitch 1.27mm, Body 5.08x3.05mm, IPC Medium Density)
pins: 1, 2, 3, 4, 5, 6, 7, 8

## CRCW0603-0000Z0EA
designator R?, comment 0R
RES SMD 0R 0603 JUMPER PU=5000 ST, CRCW06030000Z0EA, Vishay; Manufacturer Part Number: CRCW0603-0000Z0EA; Resistance: 0mR; Power Rating: 100mW; Voltage Rating: 75V; Tolerance: 5%; Temperature Coefficient: 100ppm/°C; Current Rating: 2A; Supplier 1: Allied Electronics; Supplier Part Number 1: 70202889; Manufacturer: Vishay; Stock 1: 0; Mount: Surface Mount; Case/Package: 0603; Weight: 7.1E-05oz; Case Code (Metric): 1608; Case Code (Imperial): 0603; Contact Plating: Tin,Lead; Min Operating Temperature: -55°C; Max Operating Temperature: 155°C; Packaging: Tape and Reel; Package Quantity: 1; Composition: Thick Film; Number of Terminations: 2; Termination: SMD/SMT; Military Standard: Not; Max Power Dissipation: 100mW; Voltage Rating (DC): 75V; Working Voltage: 75V; Features: Automotive AEC-Q200; Length: 1.55mm; Height: 0.02inch; Width: 0.033inch; Depth: 0.85mm; Radiation Hardening: No; REACH SVHC: Unknown; Lead Free: Lead Free; ComponentLink1URL: http://www.vishay.com/docs/20035/dcrcwe3.pdf?src-supplier=Digi-Key; ComponentLink1Description: http://www.vishay.com/docs/20035/dcrcwe3.pdf?src-supplier=Digi-Key; ComponentLink2URL: http://www.farnell.com/datasheets/2310790.pdf?src-supplier=Avnet; ComponentLink2Description: http://www.farnell.com/datasheets/2310790.pdf?src-supplier=Avnet; ComponentLink3URL: http://www.vishay.com/docs/20008/dcrcw.pdf?src-supplier=Avnet+Europe; ComponentLink3Description: http://www.vishay.com/docs/20008/dcrcw.pdf?src-supplier=Avnet+Europe; ComponentLink4URL: http://www.vishay.com/docs/20035/dcrcwe3.pdf?src-supplier=Future+Electronics; ComponentLink4Description: http://www.vishay.com/docs/20035/dcrcwe3.pdf?src-supplier=Future+Electronics; ComponentLink5URL: http://www.alliedelec.com/m/d/0c934d6939ccefa68dbe0b96d821c8cf.pdf?src-supplier=Allied+Electronics; ComponentLink5Description: http://www.alliedelec.com/m/d/0c934d6939ccefa68dbe0b96d821c8cf.pdf?src-supplier=Allied+Electronics; ComponentLink6URL: https://www.distrelec.biz/Web/Downloads/a_/en/flD-CRCW-e3_data_en.pdf?mime=application%2Fpdf&src-supplier=Distrelec; ComponentLink6Description: https://www.distrelec.biz/Web/Downloads/a_/en/flD-CRCW-e3_data_en.pdf?mime=application%2Fpdf&src-supplier=Distrelec; ComponentLink7URL: http://www.farnell.com/datasheets/2310790.pdf?src-supplier=Mouser; ComponentLink7Description: http://www.farnell.com/datasheets/2310790.pdf?src-supplier=Mouser; ComponentLink8URL: http://www.farnell.com/datasheets/2310790.pdf?src-supplier=Element14; ComponentLink8Description: http://www.farnell.com/datasheets/2310790.pdf?src-supplier=Element14; ComponentLink9URL: http://www.farnell.com/datasheets/125364.pdf?src-supplier=Element14; ComponentLink9Description: http://www.farnell.com/datasheets/125364.pdf?src-supplier=Element14
footprint RES 0603 - Jumper (Chip Resistor, 2-Leads, Body 1.60x0.85mm, IPC Medium Density)
pins: 1, 2